# Altium footprint library AX7035_PCB_AD.PcbLib: 47 footprints (part 3 of 3)
Each footprint in its own frame and in the unit in brackets; x right, y up, seen from the top. Pads: shape width x height; smd on the part's side, far side on the other; paste and mask are expansions set on the pad; w line width, h text height; cw(c..) or ccw(c..) is an arc to the next point about the centre after c.
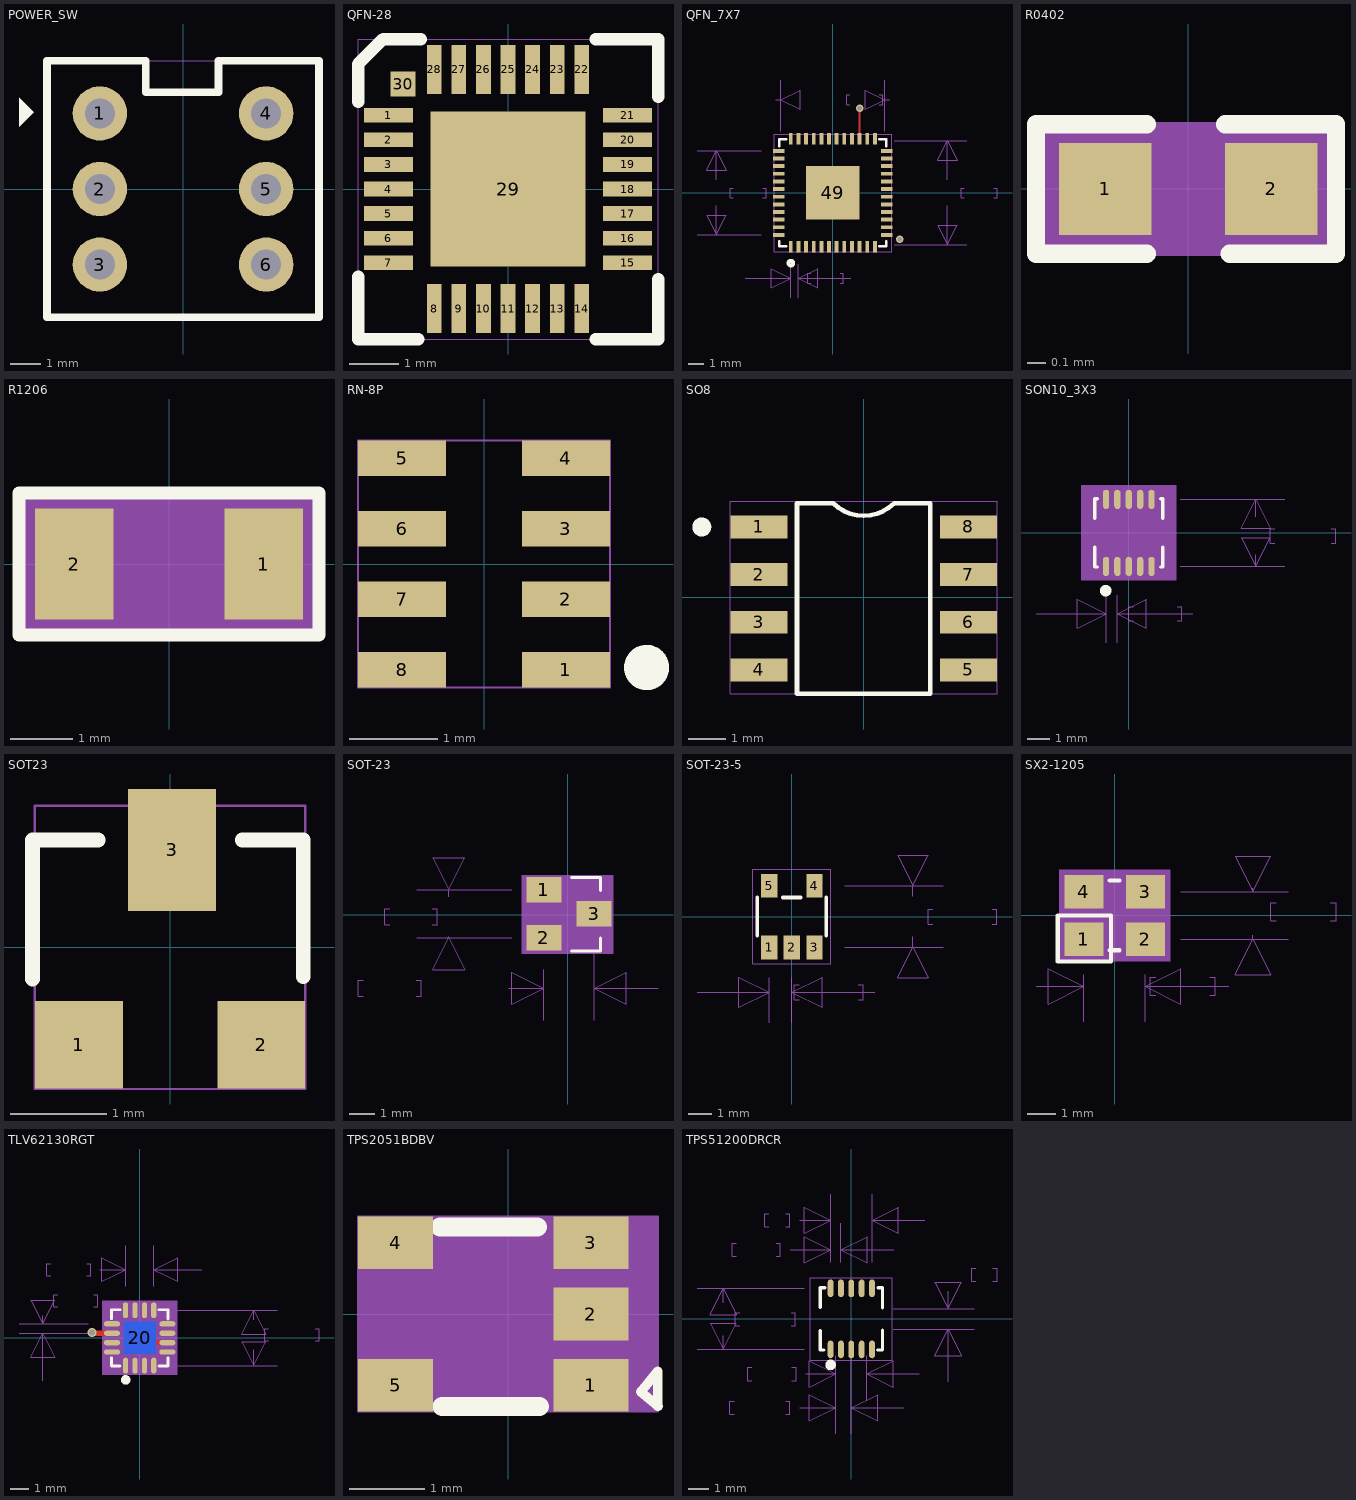
[diagram p2: the footprints below, top view; thin cyan lines are the x and y axes]

## POWER_SW [mm] "POWER_SW"
pads (6):
  round 1.8 hole 1: 1(-2.75,2.5) 2(-2.75,0) 3(-2.75,-2.5) 4(2.75,2.5) 5(2.75,0) 6(2.75,-2.5)
Top Overlay:
  pour cut-out: -4.946,2.54 -5.429,3.023 -5.429,2.057
  lines w0.254: -4.5,-4.25 -4.5,4.25 -1.238,4.25 -1.238,3.2 1.175,3.2 1.175,4.25 4.5,4.25 4.5,-4.25 -4.5,-4.25
Mechanical 8:
  text "4" at 2.75,2.246 h0.64
  text "1" at -2.75,2.246 h0.64
  text "5" at 2.75,-0.254 h0.64
  text "2" at -2.75,-0.254 h0.64
  text "3" at -2.75,-2.754 h0.64
  text "6" at 2.75,-2.754 h0.64
Mechanical 12:
  lines w0.025: -4.5,-4.25 4.5,-4.25 4.5,4.25 -4.5,4.25 -4.5,-4.25
Mechanical 13:
  lines w0.025: -4.5,-4.25 4.5,-4.25 4.5,4.25 -4.5,4.25 -4.5,-4.25
  text ".Designator" at -0.704,0.025 h0.64

## QFN-28 [mm] "QFN-28"
pads (30):
  rect 1x0.3 smd: 1(-2.43,1.5) 2(-2.43,1) 3(-2.43,0.5) 4(-2.43,0) 5(-2.43,-0.5) 6(-2.43,-1) 7(-2.43,-1.5) 15(2.43,-1.5) 16(2.43,-1) 17(2.43,-0.5) 18(2.43,0) 19(2.43,0.5) 20(2.43,1) 21(2.43,1.5)
  rect 0.3x1 smd: 8(-1.5,-2.43) 9(-1,-2.43) 10(-0.5,-2.43) 11(0,-2.43) 12(0.5,-2.43) 13(1,-2.43) 14(1.5,-2.43) 22(1.5,2.43) 23(1,2.43) 24(0.5,2.43) 25(0,2.43) 26(-0.5,2.43) 27(-1,2.43) 28(-1.5,2.43)
  rect 3.15x3.15 smd: 29(0,0)
  rect 0.508x0.508 smd: 30(-2.134,2.134)
Top Overlay:
  lines w0.254: -3.048,-1.778 -3.048,-3.048 -1.829,-3.048 ; -3.048,1.778 -3.048,2.54 -2.54,3.048 -1.778,3.048 ; 1.778,-3.048 3.048,-3.048 3.048,-1.829 ; 1.778,3.048 3.048,3.048 3.048,1.88
Mechanical 8:
  text "3" at -2.684,0.5 h0.64
  text "29" at -0.508,0 h0.64
  text "30" at -2.642,2.134 h0.64
  text "11" at -0.508,-2.43 h0.64
  text "12" at -0.008,-2.43 h0.64
  text "24" at -0.008,2.43 h0.64
  text "2" at -2.684,1 h0.64
  text "20" at 1.922,1 h0.64
  text "19" at 1.922,0.5 h0.64
  text "18" at 1.922,0 h0.64
  text "17" at 1.922,-0.5 h0.64
  text "16" at 1.922,-1 h0.64
  text "15" at 1.922,-1.5 h0.64
  text "14" at 0.992,-2.43 h0.64
  text "13" at 0.492,-2.43 h0.64
  text "22" at 0.992,2.43 h0.64
  text "21" at 1.922,1.5 h0.64
  text "10" at -1.008,-2.43 h0.64
  text "28" at -2.008,2.43 h0.64
  text "27" at -1.508,2.43 h0.64
  text "1" at -2.684,1.5 h0.64
  text "23" at 0.492,2.43 h0.64
  text "7" at -2.684,-1.5 h0.64
  text "8" at -1.754,-2.43 h0.64
  text "5" at -2.684,-0.5 h0.64
  text "26" at -1.008,2.43 h0.64
  text "9" at -1.254,-2.43 h0.64
  text "4" at -2.684,0 h0.64
  text "6" at -2.684,-1 h0.64
  text "25" at -0.508,2.43 h0.64
Mechanical 12:
  lines w0.025: -3.048,-3.048 -3.048,3.048 3.048,3.048 3.048,-3.048 -3.048,-3.048
Mechanical 13:
  lines w0.025: -3.048,-3.048 -3.048,3.048 3.048,3.048 3.048,-3.048 -3.048,-3.048
  text ".Designator" at 0,0.025 h0.64

## QFN_7X7 [mil] "QFN_7X7"
pads (49):
  rect 9.84x29.68 smd: 1(-108.27,-138.86) 2(-88.58,-138.86) 3(-68.9,-138.86) 4(-49.21,-138.86) 5(-29.53,-138.86) 6(-9.84,-138.86) 7(9.84,-138.86) 8(29.53,-138.86) 9(49.21,-138.86) 10(68.9,-138.86) 11(88.58,-138.86) 12(108.27,-138.86) 25(108.27,138.86) 26(88.58,138.86) 27(68.9,138.86) 28(49.21,138.86) 29(29.53,138.86) 30(9.84,138.86) 31(-9.84,138.86) 32(-29.53,138.86) 33(-49.21,138.86) 34(-68.9,138.86) 35(-88.58,138.86) 36(-108.27,138.86)
  rect 29.68x9.84 smd: 13(138.86,-108.27) 14(138.86,-88.58) 15(138.86,-68.9) 16(138.86,-49.21) 17(138.86,-29.53) 18(138.86,-9.84) 19(138.86,9.84) 20(138.86,29.53) 21(138.86,49.21) 22(138.86,68.9) 23(138.86,88.58) 24(138.86,108.27) 37(-138.86,108.27) 38(-138.86,88.58) 39(-138.86,68.9) 40(-138.86,49.21) 41(-138.86,29.53) 42(-138.86,9.84) 43(-138.86,-9.84) 44(-138.86,-29.53) 45(-138.86,-49.21) 46(-138.86,-68.9) 47(-138.86,-88.58) 48(-138.86,-108.27)
  rect 137.8x137.8 smd: 49(0,0)
via 172.48,-119.43 diameter 19 hole 12
via 68.9,217.87 diameter 19 hole 12
Top Layer:
  lines w6: 68.9,138.86 68.9,217.87
Top Overlay:
  circle w10: c-108,-181 r6.08
  lines w6: -137.8,-125 -137.8,-137.8 -120,-137.8 ; -137.8,120 -137.8,137.8 -120,137.8 ; 120,-137.8 137.8,-137.8 137.8,-125 ; 120,137.8 137.8,137.8 137.8,120
Mechanical 8:
  text "29" at 29.53,118.86 h25
  text "49" at 0,-20 h25
  text "13" at 138.86,-128.27 h25
  text "20" at 138.86,9.53 h25
  text "27" at 68.9,118.86 h25
  text "45" at -138.86,-69.21 h25
  text "6" at -9.84,-148.86 h25
  text "17" at 138.86,-49.53 h25
  text "38" at -138.86,68.58 h25
  text "46" at -138.86,-88.9 h25
  text "22" at 138.86,48.9 h25
  text "7" at 9.84,-148.86 h25
  text "5" at -29.53,-148.86 h25
  text "2" at -88.58,-148.86 h25
  text "32" at -29.53,118.86 h25
  text "35" at -88.58,118.86 h25
  text "3" at -68.9,-148.86 h25
  text "31" at -9.84,118.86 h25
  text "24" at 138.86,88.27 h25
  text "41" at -138.86,9.53 h25
  text "33" at -49.21,118.86 h25
  text "12" at 108.27,-158.86 h25
  text "1" at -108.27,-148.86 h25
  text "47" at -138.86,-108.58 h25
  text "15" at 138.86,-88.9 h25
  text "11" at 88.58,-158.86 h25
  text "9" at 49.21,-148.86 h25
  text "4" at -49.21,-148.86 h25
  text "36" at -108.27,118.86 h25
  text "48" at -138.86,-128.27 h25
  text "28" at 49.21,118.86 h25
  text "25" at 108.27,118.86 h25
  text "44" at -138.86,-49.53 h25
  text "19" at 138.86,-10.16 h25
  text "10" at 68.9,-158.86 h25
  text "26" at 88.58,118.86 h25
  text "39" at -138.86,48.9 h25
  text "18" at 138.86,-29.84 h25
  text "14" at 138.86,-108.58 h25
  text "23" at 138.86,68.58 h25
  text "30" at 9.84,118.86 h25
  text "8" at 29.53,-148.86 h25
  text "21" at 138.86,29.21 h25
  text "37" at -138.86,88.27 h25
  text "42" at -138.86,-10.16 h25
  text "34" at -68.9,118.86 h25
  text "40" at -138.86,29.21 h25
  text "16" at 138.86,-69.21 h25
  text "43" at -138.86,-29.84 h25
Mechanical 9:
  lines w1: -350,-108.27 -183.86,-108.27 ; -350,108.27 -183.86,108.27 ; -300,-33.25 -300,-108.27 ; -300,33.25 -300,108.27 ; -256,-12.5 -264,-12.5 -264,12.5 -256,12.5 ; -225.75,-220 -108.27,-220 ; -180,-12.5 -172,-12.5 -172,12.5 -180,12.5 ; -146.75,240 -133.86,240 ; -133.86,158.27 -133.86,290 ; -108.27,-270 -108.27,-183.86 ; -88.58,-270 -88.58,-183.86 ; -57,-232.5 -65,-232.5 -65,-207.5 -57,-207.5 ; 19,-232.5 27,-232.5 27,-207.5 19,-207.5 ; 44,227.5 36,227.5 36,252.5 44,252.5 ; 45.75,-220 -88.58,-220 ; 120,227.5 128,227.5 128,252.5 120,252.5 ; 133.86,158.27 133.86,290 ; 146.75,240 133.86,240 ; 158.27,-133.86 345,-133.86 ; 158.27,133.86 345,133.86 ; 295,-33.25 295,-133.86 ; 295,33.25 295,133.86 ; 339,-12.5 331,-12.5 331,12.5 339,12.5 ; 415,-12.5 423,-12.5 423,12.5 415,12.5 ; -300,-108.27 -275,-58.27 -325,-58.27 -300,-108.27 ; -300,108.27 -325,58.27 -275,58.27 -300,108.27 ; -133.86,240 -83.86,215 -83.86,265 -133.86,240 ; -108.27,-220 -158.27,-195 -158.27,-245 -108.27,-220 ; -88.58,-220 -38.58,-245 -38.58,-195 -88.58,-220 ; 133.86,240 83.86,265 83.86,215 133.86,240 ; 295,-133.86 320,-83.86 270,-83.86 295,-133.86 ; 295,133.86 270,83.86 320,83.86 295,133.86
  text "19.69" at -205,-232.5 h25
  text "0.5" at -49,-232.5 h25
  text "267.72" at 169,-12.5 h25
  text "6.8" at 347,-12.5 h25
  text "267.72" at -126,227.5 h25
  text "6.8" at 52,227.5 h25
  text "216.54" at -426,-12.5 h25
  text "5.5" at -248,-12.5 h25
Mechanical 12:
  lines w1: -151.2,-151.2 151.2,-151.2 151.2,151.2 -151.2,151.2 -151.2,-151.2
Mechanical 13:
  text ".Designator" at 0,0 h25

## R0402 [mil] "R0402"
pads (2):
  rect 20x20 smd: 1(-18,0) 2(18,0)
Top Overlay:
  lines w4: -9,-14 -33,-14 -33,14 -9,14 ; 8,14 32,14 32,-14 9,-14
  text ".Designator" at -38.5,29.53 h25
Mechanical 8:
  text "1" at -18,10 h25
  text "2" at 18,10 h25
Mechanical 12:
  region: -32,-14 32,-14 32,14 -32,14
Mechanical 13:
  lines w1: -32,-14 -32,14 32,14 32,-14 -32,-14
3D body: height 150, standoff 0, extent -32,-14 32,14

## R1206 [mil] "R1206"
pads (2):
  rect 50x70 smd: 1(60,0) 2(-60,0)
Top Overlay:
  lines w8: -95,-45 95,-45 95,45 -95,45 -95,-45
Mechanical 8:
  text "2" at -70,0 h25
  text "1" at 50,0 h25
Mechanical 10:
  region: 95,-45 -95,-45 -95,45 95,45
Mechanical 11:
  text ".Designator" at 0,0 h25
3D body: height 150, standoff 0, extent -95,-45 95,45

## RN-8P [mm] "RN-8P"
pads (8):
  rect 1x0.4 smd: 1(0.929,-1.2) 2(0.929,-0.4) 3(0.929,0.4) 4(0.929,1.2) 5(-0.929,1.2) 6(-0.929,0.4) 7(-0.929,-0.4) 8(-0.929,-1.2)
Top Overlay:
  circle w0.254: c1.844,-1.174 r0.13
  text ".Designator" at -2.176,-0.953 h0.64
Mechanical 8:
  text "5" at -0.929,1.454 h0.64
  text "7" at -0.929,-0.146 h0.64
  text "1" at 0.929,-0.946 h0.64
  text "2" at 0.929,-0.146 h0.64
  text "3" at 0.929,0.654 h0.64
  text "4" at 0.929,1.454 h0.64
  text "6" at -0.929,0.654 h0.64
  text "8" at -0.929,-0.946 h0.64
Mechanical 10:
  lines w0.025: -1.429,-1.4 -1.429,1.4 1.429,1.4 1.429,-1.4 -1.429,-1.4
Mechanical 11:
  lines w0.025: -1.429,-1.4 -1.429,1.4 1.429,1.4 1.429,-1.4 -1.429,-1.4

## SO8 [mil] "SO8"
pads (8):
  rect 60x24 smd: 1(-110,74) 2(-110,24) 3(-110,-26) 4(-110,-76) 5(110,-76) 6(110,-26) 7(110,24) 8(110,74)
Top Overlay:
  circle w10: c-170,74 r5
  lines w5: -70,-101 70,-101 70,99 32,99 cw(c0,131) -32,99 -70,99 -70,-101
  text ".Designator" at -49,117.67 h25
Mechanical 8:
  text "5" at 100,-76 h25
  text "1" at -120,74 h25
  text "2" at -120,24 h25
  text "3" at -120,-26 h25
  text "6" at 100,-26 h25
  text "7" at 100,24 h25
  text "4" at -120,-76 h25
  text "8" at 100,74 h25
Mechanical 12:
  lines w1: -140,-101 -140,101 140,101 140,-101 -140,-101

## SON10_3X3 [mm] "SON10_3X3"
pads (11):
  oval 0.28x0.85 smd: 1(-1,-1.475) 2(-0.5,-1.475) 3(0,-1.475) 4(0.5,-1.475) 5(1,-1.475) 6(1,1.475) 7(0.5,1.475) 8(0,1.475) 9(-0.5,1.475) 10(-1,1.475)
  oct 0.025x0.025 smd: 11(0,0)
Top Overlay:
  circle w0.254: c-1.016,-2.54 r0.127
  lines w0.152: -1.5,-0.635 -1.5,-1.5 -1.397,-1.5 ; -1.5,0.635 -1.5,1.5 -1.397,1.5 ; 1.397,-1.5 1.5,-1.5 1.5,-0.635 ; 1.397,1.5 1.5,1.5 1.5,0.635
Mechanical 8:
  text "6" at 1,1.729 h0.64
  text "11" at 0,0.508 h0.64
  text "8" at 0,1.729 h0.64
  text "3" at 0,-1.221 h0.64
  text "7" at 0.5,1.729 h0.64
  text "1" at -1,-1.221 h0.64
  text "2" at -0.5,-1.221 h0.64
  text "5" at 1,-1.221 h0.64
  text "9" at -0.5,1.729 h0.64
  text "10" at -1,1.983 h0.64
  text "4" at 0.5,-1.221 h0.64
Mechanical 9:
  lines w0.025: -4.083,-3.556 -1,-3.556 ; -1,-4.826 -1,-2.745 ; -0.5,-4.826 -0.5,-2.745 ; 0.203,-3.873 0,-3.873 0,-3.238 0.203,-3.238 ; 2.134,-3.873 2.337,-3.873 2.337,-3.238 2.134,-3.238 ; 2.27,-1.475 6.858,-1.475 ; 2.27,1.475 6.858,1.475 ; 2.813,-3.556 -0.5,-3.556 ; 5.588,-0.972 5.588,-1.475 ; 5.588,0.718 5.588,1.475 ; 6.426,-0.445 6.223,-0.445 6.223,0.191 6.426,0.191 ; 8.915,-0.445 9.119,-0.445 9.119,0.191 8.915,0.191 ; -1,-3.556 -2.27,-2.921 -2.27,-4.191 -1,-3.556 ; -0.5,-3.556 0.77,-4.191 0.77,-2.921 -0.5,-3.556 ; 5.588,-1.475 6.223,-0.205 4.953,-0.205 5.588,-1.475 ; 5.588,1.475 4.953,0.205 6.223,0.205 5.588,1.475
  text "116.14" at 2.108,-0.445 h0.64
  text "2.95" at 6.629,-0.445 h0.64
  text "19.68" at -3.556,-3.873 h0.64
  text "0.5" at 0.406,-3.873 h0.64
Mechanical 12:
  region: -2.09,-2.09 2.09,-2.09 2.09,2.09 -2.09,2.09
Mechanical 13:
  text ".Designator" at 0,0 h0.64
3D body: height 3.81, standoff 0, extent -2.09,-2.09 2.09,2.09

## SOT23 [mil] "SOT23"
pads (3):
  rect 36x36 smd: 1(-37.4,-39.96) 2(37.4,-39.96)
  rect 36x50 smd: 3(0.79,39.96)
Top Overlay:
  lines w6: -56.4,-12.96 -56.4,44.04 -29.4,44.04 ; 29.6,44.04 54.6,44.04 54.6,-11.96
  text ".Designator" at -13.5,-104.33 h25
Mechanical 8:
  text "1" at -47.48,-39.96 h25.2
  text "3" at -9.29,39.96 h25.2
  text "2" at 27.32,-39.96 h25.2
Mechanical 12:
  lines w1: -55.51,-58.07 -55.51,58.07 55.51,58.07 55.51,-58.07 -55.51,-58.07
Mechanical 13:
  lines w1: -55.51,-58.07 -55.51,58.07 55.51,58.07 55.51,-58.07 -55.51,-58.07

## SOT-23 [mil] "SOT-23"
pads (3):
  rect 55x40 smd: 1(-37.3,38.83) 2(-37.3,-35.98) 3(41.09,1.43)
Top Overlay:
  lines w5: 6.01,-56.88 51.01,-56.88 51.01,-36.88 ; 6.01,58.12 51.01,58.12 51.01,38.12
  text ".Designator" at 96.5,-11.34 h25
Mechanical 8:
  text "1" at -27.3,38.83 h25
  text "3" at 51.09,1.43 h25
  text "2" at -27.3,-35.98 h25
Mechanical 9:
  lines w1: -319.83,-127.49 -327.83,-127.49 -327.83,-102.49 -319.83,-102.49 ; -278.09,-16.08 -286.09,-16.08 -286.09,8.92 -278.09,8.92 ; -236.83,-127.49 -228.83,-127.49 -228.83,-102.49 -236.83,-102.49 ; -236.09,-35.98 -87.3,-35.98 ; -236.09,38.83 -87.3,38.83 ; -212.09,-16.08 -204.09,-16.08 -204.09,8.92 -212.09,8.92 ; -186.09,-34.83 -186.09,-35.98 ; -186.09,27.67 -186.09,38.83 ; -92.08,-114.99 -37.3,-114.99 ; -37.3,-164.99 -37.3,-85.98 ; 41.09,-164.99 41.09,-48.57 ; 141.09,-114.99 41.09,-114.99 ; -186.09,-35.98 -161.09,-85.98 -211.09,-85.98 -186.09,-35.98 ; -186.09,38.83 -211.09,88.83 -161.09,88.83 -186.09,38.83 ; -37.3,-114.99 -87.3,-139.99 -87.3,-89.99 -37.3,-114.99 ; 41.09,-114.99 91.09,-89.99 91.09,-139.99 41.09,-114.99
  text "sot-23" at 66.38,111.42 h25
  text "78.39" at -110.83,-102.49 h25
  text "1.99" at -244.83,-102.49 h25
  text "74.81" at -86.09,8.92 h25
  text "1.9" at -220.09,8.92 h25
Mechanical 10:
  region: 71.5,-61.5 71.5,61.5 -71.5,61.5 -71.5,-61.5
3D body: height 150, standoff 0, extent -71.5,-61.5 71.5,61.5

## SOT-23-5 [mil] "SOT-23-5"
pads (5):
  rect 27x39 smd: 1(-37.4,-50.98) 2(0,-50.98) 3(37.4,-50.98) 4(37.4,50.98) 5(-37.4,50.98)
Top Overlay:
  lines w6: -57.09,-31.5 -57.09,31.5 ; -15,31.5 15,31.5 ; 57.09,-31.5 57.09,31.5
  text ".Designator" at 77.46,30.5 h25
Mechanical 8:
  text "1" at -37.4,-40.98 h25
  text "3" at 37.4,-40.98 h25
  text "5" at -37.4,60.98 h25
  text "4" at 37.4,60.98 h25
  text "2" at 0,-40.98 h25
Mechanical 9:
  lines w1: -156.75,-125 -37.4,-125 ; -37.4,-175 -37.4,-100.98 ; 0,-175 0,-100.98 ; 12,-137.5 4,-137.5 4,-112.5 12,-112.5 ; 87.4,-50.98 250,-50.98 ; 87.4,50.98 250,50.98 ; 110,-137.5 118,-137.5 118,-112.5 110,-112.5 ; 136.75,-125 0,-125 ; 200,-33.25 200,-50.98 ; 200,33.25 200,50.98 ; 233,-12.5 225,-12.5 225,12.5 233,12.5 ; 331,-12.5 339,-12.5 339,12.5 331,12.5 ; -37.4,-125 -87.4,-150 -87.4,-100 -37.4,-125 ; 0,-125 50,-100 50,-150 0,-125 ; 200,-50.98 225,-100.98 175,-100.98 200,-50.98 ; 200,50.98 175,100.98 225,100.98 200,50.98
  text "37.40" at -136,-137.5 h25
  text "0.95" at 20,-137.5 h25
  text "101.96" at 63,-12.5 h25
  text "2.59" at 241,-12.5 h25
Mechanical 12:
  lines w1: -64.59,-77.98 -64.59,77.98 64.59,77.98 64.59,-77.98 -64.59,-77.98

## SX2-1205 [mil] "SX2-1205"
pads (4):
  rect 55x47 smd: 1(-43.31,-33.46) 2(43.31,-33.46) 3(43.31,33.46) 4(-43.31,33.46)
Top Overlay:
  lines w6: -6.81,-49.21 6.81,-49.21 ; -6.81,49.21 6.81,49.21 ; -80,-65 -5,-65 -5,0 -75,0 -80,0 -80,-65
  text ".Designator" at -78.5,70.67 h25
Mechanical 8:
  text "1" at -53.31,-33.46 h25
  text "3" at 33.31,33.46 h25
  text "2" at 33.31,-33.46 h25
  text "4" at -53.31,33.46 h25
Mechanical 9:
  lines w1: -110.75,-100 -43.31,-100 ; -43.31,-150 -43.31,-83.46 ; 43.31,-150 43.31,-83.46 ; 58,-112.5 50,-112.5 50,-87.5 58,-87.5 ; 93.31,-33.46 245,-33.46 ; 93.31,33.46 245,33.46 ; 134,-112.5 142,-112.5 142,-87.5 134,-87.5 ; 160.75,-100 43.31,-100 ; 195,-28.25 195,-33.46 ; 195,38.25 195,33.46 ; 228,-7.5 220,-7.5 220,17.5 228,17.5 ; 304,-7.5 312,-7.5 312,17.5 304,17.5 ; -43.31,-100 -93.31,-125 -93.31,-75 -43.31,-100 ; 43.31,-100 93.31,-75 93.31,-125 43.31,-100 ; 195,-33.46 220,-83.46 170,-83.46 195,-33.46 ; 195,33.46 170,83.46 220,83.46 195,33.46
  text "86.62" at -90,-112.5 h25
  text "2.2" at 66,-112.5 h25
  text "66.92" at 80,-7.5 h25
  text "1.7" at 236,-7.5 h25
Mechanical 12:
  region: 78.31,-64.46 78.31,64.46 -78.31,64.46 -78.31,-64.46
3D body: height 150, standoff 0, extent -78.31,-64.46 78.31,64.46

## TLV62130RGT [mil] "TLV62130RGT"
pads (17):
  oval 11.03x33.47 smd: 1(-29.49,-58.57) 2(-9.8,-58.57) 3(9.88,-58.57) 4(29.57,-58.57) 9(29.57,57.57) 10(9.88,57.57) 11(-9.8,57.57) 12(-29.49,57.57)
  oval 33.47x11.03 smd: 5(58.11,-30.03) 6(58.11,-10.34) 7(58.11,9.34) 8(58.11,29.03) 13(-58.03,29.03) 14(-58.03,9.34) 15(-58.03,-10.34) 16(-58.03,-30.03)
  rect 66.93x66.93 smd far side: 20(0.04,-0.5)
via -100,10.7 diameter 19 hole 12
Top Layer:
  lines w10: 20.42,-20.88 20.5,-20.8 30.96,-10.34 58.11,-10.34
  lines w11: -100,10.7 -96,10.7 -94.64,9.34 -58.03,9.34
Top Overlay:
  circle w10: c-29.35,-88.41 r5.06
  lines w6: -59.02,-41.95 -59.02,-59.56 -40.96,-59.56 ; -59.02,39.86 -59.02,58.56 -40.6,58.56 ; 40.12,-59.56 59.1,-59.56 59.1,-41.87 ; 40.48,58.56 59.1,58.56 59.1,39.58
Mechanical 8:
  text "4" at 29.57,-48.57 h25
  text "16" at -58.03,-10.03 h25
  text "15" at -58.03,9.66 h25
  text "8" at 58.11,39.03 h25
  text "7" at 58.11,19.34 h25
  text "6" at 58.11,-0.34 h25
  text "20" at 0.04,19.5 h25
  text "13" at -58.03,49.03 h25
  text "1" at -29.49,-48.57 h25
  text "2" at -9.8,-48.57 h25
  text "3" at 9.88,-48.57 h25
  text "5" at 58.11,-20.03 h25
  text "9" at 29.57,67.57 h25
  text "14" at -58.03,29.34 h25
  text "12" at -29.49,77.57 h25
  text "11" at -9.8,77.57 h25
  text "10" at 9.88,77.57 h25
Mechanical 9:
  lines w1: -252.92,9.34 -108.03,9.34 ; -252.92,29.03 -108.03,29.03 ; -202.92,-90.66 -202.92,9.34 ; -202.92,46.32 -202.92,29.03 ; -186.6,130.38 -194.6,130.38 -194.6,155.38 -186.6,155.38 ; -171.92,65.07 -179.92,65.07 -179.92,90.07 -171.92,90.07 ; -110.6,130.38 -102.6,130.38 -102.6,155.38 -110.6,155.38 ; -95.92,65.07 -87.92,65.07 -87.92,90.07 -95.92,90.07 ; -83.85,142.88 -29.49,142.88 ; -29.49,107.57 -29.49,192.88 ; 29.57,107.57 29.57,192.88 ; 79.57,-58.57 288.81,-58.57 ; 79.57,57.57 288.81,57.57 ; 129.57,142.88 29.57,142.88 ; 238.81,-24.86 238.81,-58.57 ; 238.81,37.64 238.81,57.57 ; 269.81,-6.11 261.81,-6.11 261.81,18.89 269.81,18.89 ; 367.81,-6.11 375.81,-6.11 375.81,18.89 367.81,18.89 ; -202.92,9.34 -227.92,-40.66 -177.92,-40.66 -202.92,9.34 ; -202.92,29.03 -177.92,79.03 -227.92,79.03 -202.92,29.03 ; -29.49,142.88 -79.49,167.88 -79.49,117.88 -29.49,142.88 ; 29.57,142.88 79.57,117.88 79.57,167.88 29.57,142.88 ; 238.81,-58.57 263.81,-8.57 213.81,-8.57 238.81,-58.57 ; 238.81,57.57 213.81,7.57 263.81,7.57 238.81,57.57
  text "19.69" at -317.92,65.07 h25
  text "0.5" at -163.92,65.07 h25
  text "59.06" at -332.6,130.38 h25
  text "1.5" at -178.6,130.38 h25
  text "116.14" at 101.81,-6.11 h25
  text "2.95" at 277.81,-6.11 h25
Mechanical 12:
  region: -78.52,-77.96 78.51,-77.96 78.51,77.97 -78.52,77.97
Mechanical 13:
  text ".Designator" at -17.28,20.52 h25
3D body: height 150, standoff 0, extent -78.52,-77.96 78.51,77.97

## TPS2051BDBV [mm] "TPS2051BDBV"
pads (5):
  rect 1x0.7 smd: 1(1.104,-0.95) 2(1.104,0) 3(1.104,0.95) 4(-1.496,0.95) 5(-1.496,-0.95)
Top Overlay:
  lines w0.127: 1.993,-1.229 1.993,-0.759 1.768,-1.037 1.996,-1.228
  lines w0.254: -0.903,1.158 0.393,1.158 ; -0.877,-1.229 0.418,-1.229
  text ".Designator" at -0.757,1.645 h0.64
Mechanical 8:
  text "5" at -1.242,-0.95 h0.64
  text "3" at 1.358,0.95 h0.64
  text "1" at 1.358,-0.95 h0.64
  text "4" at -1.242,0.95 h0.64
  text "2" at 1.358,0 h0.64
Mechanical 10:
  region: -1.996,1.3 1.996,1.3 1.996,-1.3 -1.996,-1.3
Mechanical 11:
  lines w0.025: -1.996,-1.3 1.996,-1.3 1.996,1.3 -1.996,1.3 -1.996,-1.3
3D body: height 3.81, standoff 0, extent -1.996,-1.3 1.996,1.3

## TPS51200DRCR [mil] "TPS51200DRCR"
pads (11):
  oval 11.03x33.47 smd: 1(-39.2,-57.9) 2(-19.52,-57.9) 3(0.17,-57.9) 4(19.86,-57.9) 5(39.54,-57.9) 6(39.54,58.24) 7(19.86,58.24) 8(0.17,58.24) 9(-19.52,58.24) 10(-39.2,58.24)
  oct 1x1 smd: 11(0.17,0.17)
Top Overlay:
  circle w10: c-39.19,-87.31 r5.05
  lines w6: -58.89,-21.75 -58.89,-58.89 -51.41,-58.89 ; -58.89,22.07 -58.89,59.23 -50.4,59.23 ; 50.05,-58.89 59.23,-58.89 59.23,-20.74 ; 51.4,59.23 59.23,59.23 59.23,21.06
Mechanical 8:
  text "4" at 9.86,-57.9 h25
  text "11" at -19.83,0.17 h25
  text "8" at -9.83,58.24 h25
  text "9" at -29.52,58.24 h25
  text "5" at 29.54,-57.9 h25
  text "3" at -9.83,-57.9 h25
  text "1" at -49.2,-57.9 h25
  text "2" at -29.52,-57.9 h25
  text "6" at 29.54,58.24 h25
  text "10" at -59.2,58.24 h25
  text "7" at 9.86,58.24 h25
Mechanical 9:
  lines w1: -293.02,-57.9 -89.2,-57.9 ; -293.02,58.24 -89.2,58.24 ; -243.02,-31.57 -243.02,-57.9 ; -243.02,30.93 -243.02,58.24 ; -222.68,-181.03 -230.68,-181.03 -230.68,-156.03 -222.68,-156.03 ; -218.44,118.98 -226.44,118.98 -226.44,143.98 -218.44,143.98 ; -212.02,-12.82 -220.02,-12.82 -220.02,12.18 -212.02,12.18 ; -188.78,-116.99 -196.78,-116.99 -196.78,-91.99 -188.78,-91.99 ; -156.66,174.95 -164.66,174.95 -164.66,199.95 -156.66,199.95 ; -142.44,118.98 -134.44,118.98 -134.44,143.98 -142.44,143.98 ; -124.68,-181.03 -116.68,-181.03 -116.68,-156.03 -124.68,-156.03 ; -124.66,174.95 -116.66,174.95 -116.66,199.95 -124.66,199.95 ; -115.69,131.48 -39.2,131.48 ; -114.02,-12.82 -106.02,-12.82 -106.02,12.18 -114.02,12.18 ; -112.78,-116.99 -104.78,-116.99 -104.78,-91.99 -112.78,-91.99 ; -97.93,-168.53 -29.36,-168.53 ; -97.91,187.45 -39.2,187.45 ; -86.03,-104.49 -29.36,-104.49 ; -39.2,181.48 -39.2,108.24 -39.2,237.45 ; -29.36,-218.53 -29.36,-69.52 -29.36,-154.49 ; -19.52,108.24 -19.52,181.48 ; 0.17,-218.53 0.17,-49.83 ; 29.7,-154.49 29.7,-69.52 ; 39.54,108.24 39.54,237.45 ; 79.7,-19.52 234.07,-19.52 ; 79.7,19.86 234.07,19.86 ; 80.48,131.48 -19.52,131.48 ; 100.17,-168.53 0.17,-168.53 ; 129.7,-104.49 29.7,-104.49 ; 139.54,187.45 39.54,187.45 ; 184.07,-119.52 184.07,-19.52 ; 184.07,53.04 184.07,19.86 ; 237.07,71.79 229.07,71.79 229.07,96.79 237.07,96.79 ; 269.07,71.79 277.07,71.79 277.07,96.79 269.07,96.79 ; -243.02,-57.9 -218.02,-7.9 -268.02,-7.9 -243.02,-57.9 ; -243.02,58.24 -268.02,8.24 -218.02,8.24 -243.02,58.24 ; -39.2,131.48 -89.2,156.48 -89.2,106.48 -39.2,131.48 ; -39.2,187.45 -89.2,212.45 -89.2,162.45 -39.2,187.45 ; -29.36,-168.53 -79.36,-143.53 -79.36,-193.53 -29.36,-168.53 ; -29.36,-104.49 -79.36,-79.49 -79.36,-129.49 -29.36,-104.49 ; -19.52,131.48 30.48,106.48 30.48,156.48 -19.52,131.48 ; 0.17,-168.53 50.17,-193.53 50.17,-143.53 0.17,-168.53 ; 29.7,-104.49 79.7,-129.49 79.7,-79.49 29.7,-104.49 ; 39.54,187.45 89.54,162.45 89.54,212.45 39.54,187.45 ; 184.07,-19.52 159.07,-69.52 209.07,-69.52 184.07,-19.52 ; 184.07,19.86 209.07,69.86 159.07,69.86 184.07,19.86
  text "116.14" at -380.02,-12.82 h25
  text "2.95" at -204.02,-12.82 h25
  text "19.68" at -364.44,118.98 h25
  text "0.5" at -210.44,118.98 h25
  text "78.74" at -302.66,174.95 h25
  text "2" at -148.66,174.95 h25
  text "39.38" at 91.07,71.79 h25
  text "1" at 245.07,71.79 h25
  text "59.06" at -334.78,-116.99 h25
  text "1.5" at -180.78,-116.99 h25
  text "29.53" at -368.68,-181.03 h25
  text "0.75" at -214.68,-181.03 h25
Mechanical 12:
  lines w1: -78.04,-78.04 -78.04,78.03 78.03,78.03 78.03,-78.04 -78.04,-78.04
Mechanical 13:
  text ".Designator" at -10.09,4.06 h25